# Altium footprint library PcbLib1.PcbLib: 13 footprints
Each footprint in its own frame and in the unit in brackets; x right, y up, seen from the top. Pads: shape width x height; smd on the part's side, far side on the other; paste and mask are expansions set on the pad; w line width, h text height; cw(c..) or ccw(c..) is an arc to the next point about the centre after c.
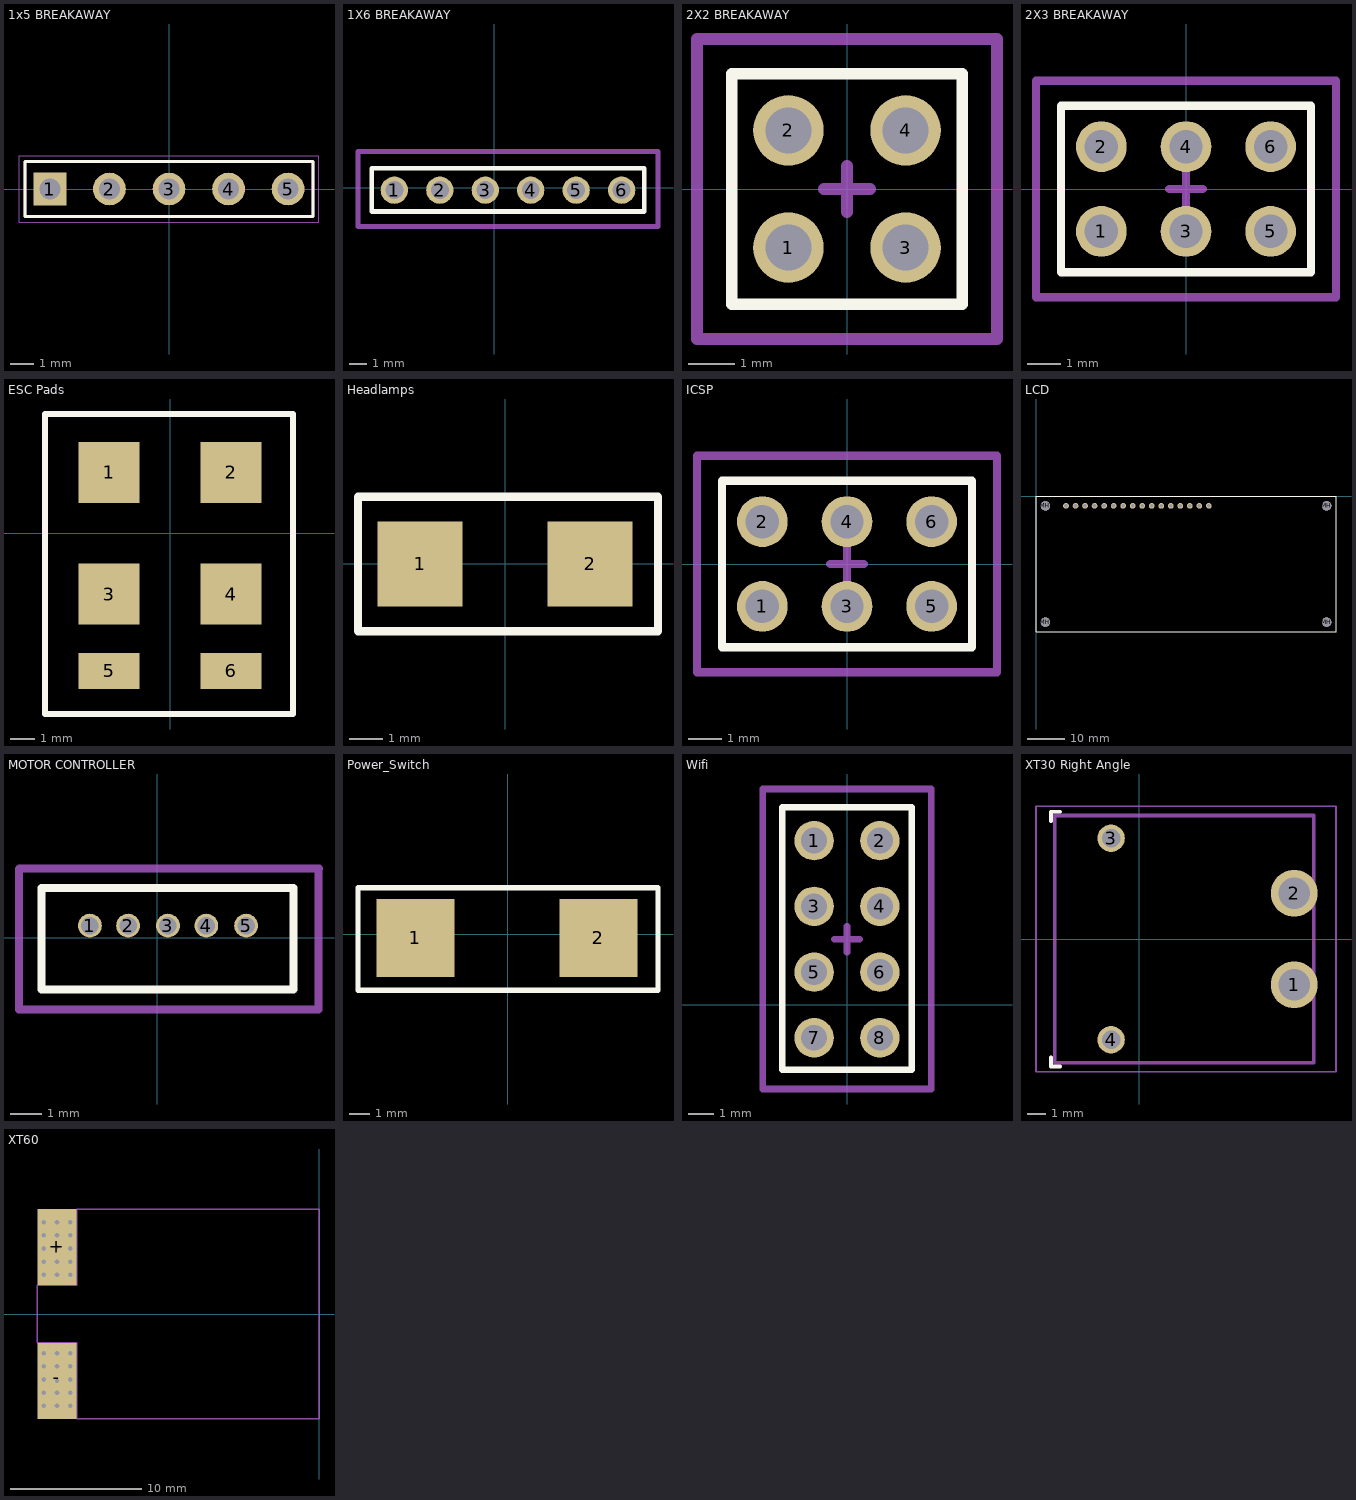
[diagram p0: the footprints below, top view; thin cyan lines are the x and y axes]

## 1x5 BREAKAWAY [mm]
pads (5):
  rect 1.398x1.398 hole 0.89: 1(-5.08,0)
  round 1.398 hole 0.89: 2(-2.54,0) 3(0,0) 4(2.54,0) 5(5.08,0)
Top Overlay:
  lines w0.127: -6.15,-1.17 6.15,-1.17 6.15,1.17 -6.15,1.17 -6.15,-1.17
Mechanical 3:
  lines w0.05: -6.4,-1.42 6.4,-1.42 6.4,1.42 -6.4,1.42 -6.4,-1.42
Mechanical 4:
  lines w0.127: -6.15,-1.17 6.15,-1.17 ; -6.15,-1.17 -6.15,1.17 ; -6.15,-1.17 6.15,-1.17 ; -6.15,-1.17 -6.15,1.17 ; -6.15,1.17 6.15,1.17 ; -6.15,1.17 6.15,1.17 ; 6.15,-1.17 6.15,1.17 ; 6.15,-1.17 6.15,1.17
3D body "c-5-146280-5-d-3d.stp": height 8.13, standoff -3.04, extent -6.147,-1.168 6.147,1.169

## 1X6 BREAKAWAY [mil]
pads (6):
  round 60 hole 39.37: 1(-220,-5) 2(-120,-5) 3(-20,-5) 4(80,-5) 5(180,-5) 6(280,-5)
Top Overlay:
  lines w10: -270,-52 330,-52 ; -270,-50 -270,43 330,43 330,-50
Mechanical 3:
  lines w10: -300,-85 360,-85 360,80 -300,80 -300,-85
3D body "c-5-146278-6-e-3d.stp": height 320.16, standoff -119.84, extent -262.93,-49.9 321.07,42.1

## 2X2 BREAKAWAY [mil]
pads (4):
  round 60 hole 39.37: 1(-50,-50) 2(-50,50) 3(50,-50) 4(50,50)
Top Overlay:
  lines w10: -98.43,-98.43 98.43,-98.43 98.43,98.43 -98.43,98.43 -98.43,-98.43
Mechanical 3:
  lines w10: -19.68,0 19.68,0 ; 0,-19.68 0,19.68 ; -127.95,-127.95 127.95,-127.95 127.95,127.95 -127.95,127.95 -127.95,-127.95
3D body "901310762.stp": height 364.17, standoff -114.17, extent -100,-100 100,100

## 2X3 BREAKAWAY [mil]
pads (6):
  round 60 hole 39.37: 1(-100,-50) 2(-100,50) 3(0,-50) 4(0,50) 5(100,-50) 6(100,50)
Top Overlay:
  lines w10: -147.64,-98.43 147.64,-98.43 147.64,98.43 -147.64,98.43 -147.64,-98.43
Mechanical 3:
  lines w10: -19.68,0 19.68,0 ; 0,-19.68 0,19.68 ; -177.17,-127.95 177.17,-127.95 177.17,127.95 -177.17,127.95 -177.17,118.11 -177.17,-127.95
3D body "901310763.stp": height 364.17, standoff -114.17, extent -150,-100 150,100

## ESC Pads [mm]
pads (6):
  rect 2.54x2.54 smd: 1(-2.54,2.54) 2(2.54,2.54) 3(-2.54,-2.54) 4(2.54,-2.54)
  rect 2.54x1.5 smd: 5(-2.54,-5.738) 6(2.54,-5.738)
Top Overlay:
  lines w0.254: -5.215,-7.531 -5.215,4.969 5.052,4.969 ; -5.139,-7.525 5.128,-7.525 ; 5.121,-7.531 5.121,4.969

## Headlamps [mil]
pads (2):
  rect 100x100 smd: 1(-100,0) 2(100,0)
Top Overlay:
  lines w10: -173.21,-79.48 179.75,-79.48 179.75,79.14 -173.21,79.14 -173.21,-78.98

## ICSP [mil]
pads (6):
  round 60 hole 39.37: 1(-100,-50) 2(-100,50) 3(0,-50) 4(0,50) 5(100,-50) 6(100,50)
Top Overlay:
  lines w10: -147.64,-98.43 -147.64,98.43 147.64,98.43 147.64,-98.43 -147.64,-98.43
Mechanical 3:
  lines w10: -19.68,0 19.68,0 ; 0,-19.68 0,19.68 ; -177.17,-127.95 -177.17,118.11 -177.17,127.95 177.17,127.95 177.17,-127.95 -177.17,-127.95

## LCD [mm] "Sparkfun Basic 16x2 Character LCD"
pads (20):
  round 1.524 hole 1: 1(8,-2.5) 2(10.54,-2.5) 3(13.08,-2.5) 4(15.62,-2.5) 5(18.16,-2.5) 6(20.7,-2.5) 7(23.24,-2.5) 8(25.78,-2.5) 9(28.32,-2.5) 10(30.86,-2.5) 11(33.4,-2.5) 12(35.94,-2.5) 13(38.48,-2.5) 14(41.02,-2.5) 15(43.56,-2.5) 16(46.1,-2.5)
  round 2.5 hole 2.5: MH(2.5,-33.5) MH(2.5,-2.5) MH(77.5,-33.5) MH(77.5,-2.5)
Top Overlay:
  lines w0.254: 0,-36 80,-36 80,0 0,0 0,-2 0,-36
3D body "9067.STEP": height 18.72, standoff 6, extent 0,-36 80,0
3D body: height 8, standoff 0, extent 75,-35.997 80,-31.003
3D body: height 8, standoff 0, extent 75,-4.997 80,-0.003
3D body: height 8, standoff 0, extent 0,-4.997 5,-0.003
3D body: height 8, standoff 0, extent 0,-35.997 5,-31.003
3D body: height 8, standoff 0, extent 7,-3.5 47,-1.5

## MOTOR CONTROLLER [mil]
pads (5):
  round 30 hole 22: 1(-85,15.02) 2(-37,15.02) 3(13.19,15.05) 4(61.44,15.02) 5(111.58,15.02)
Top Overlay:
  lines w10: -145.81,-65.2 171.29,-65.2 171.29,62.24 -145.81,62.24 -145.81,-65.2
Mechanical 1:
Mechanical 3:
  lines w10: 202.84,85.59 202.84,-90.31 -174.28,-90.31 -174.28,86.09 -173.61,86.75 203.31,86.75
3D body "530470510.stp": height 188.39, standoff -67.52, extent -145,-65.98 169.96,60

## Power_Switch [mil]
pads (2):
  rect 150x150 smd: 1(-176.66,-7.4) 2(173.34,-7.4)
Top Overlay:
  lines w10: -286.61,88.2 -286.61,-107.25 287.18,-107.25 287.18,88.62 -286.2,88.62

## Wifi [mil]
pads (8):
  round 60 hole 39.37: 1(-50,250) 2(50,250) 3(-50,150) 4(50,150) 5(-50,50) 6(50,50) 7(-50,-50) 8(50,-50)
Top Overlay:
  lines w10: -98.43,-98.43 98.43,-98.43 98.43,300.71 -98.43,300.71 -98.43,-98.43
Mechanical 3:
  lines w10: -19.68,100 19.68,100 ; 0,80 0,120 ; -127.95,-127.95 127.95,-127.95 127.95,328.55 -127.95,328.55 -127.95,-127.95

## XT30 Right Angle [mm]
pads (4):
  round 2.55 / inner round 1.524 / far side round 2.55 hole 1.7: 1(8.452,-2.5) 2(8.452,2.5)
  round 1.5 / inner round 1.524 / far side round 1.5 hole 1: 3(-1.548,5.5) 4(-1.548,-5.5)
Top Overlay:
  lines w0.2: -4.83,-6.46 -4.83,-6.96 -4.33,-6.96 ; -4.83,6.44 -4.83,6.94 -4.33,6.94
Mechanical 1:
  lines w0.2: -4.63,-6.76 9.52,-6.76 9.52,6.74 -4.63,6.74 -4.63,-6.76
Mechanical 3:
  lines w0.1: -5.648,-7.25 10.728,-7.25 10.728,7.25 -5.648,7.25 -5.648,-7.25
3D body "User Library-XT30PW-M.step": height 5, standoff -2, extent -4.53,-6.66 9.42,6.64

## XT60 [mm]
pads (2):
  rect 3x5.8 hole 0.305: +(-20,5.1) -(-20,-5.1)
via -19,-7 diameter 0.35 hole 0.35
via -20,-7 diameter 0.35 hole 0.35
via -21,-7 diameter 0.35 hole 0.35
via -21,-6 diameter 0.35 hole 0.35
via -20,-6 diameter 0.35 hole 0.35
via -19,-6 diameter 0.35 hole 0.35
via -19,-5 diameter 0.35 hole 0.35
via -21,-5 diameter 0.35 hole 0.35
via -21,-4 diameter 0.35 hole 0.35
via -20,-4 diameter 0.35 hole 0.35
via -19,-4 diameter 0.35 hole 0.35
via -19,-3 diameter 0.35 hole 0.35
via -20,-3 diameter 0.35 hole 0.35
via -21,-3 diameter 0.35 hole 0.35
via -19,3 diameter 0.35 hole 0.35
via -20,3 diameter 0.35 hole 0.35
via -21,3 diameter 0.35 hole 0.35
via -21,4 diameter 0.35 hole 0.35
via -20,4 diameter 0.35 hole 0.35
via -19,4 diameter 0.35 hole 0.35
via -19,5 diameter 0.35 hole 0.35
via -21,5 diameter 0.35 hole 0.35
via -21,6 diameter 0.35 hole 0.35
via -20,6 diameter 0.35 hole 0.35
via -19,6 diameter 0.35 hole 0.35
via -19,7 diameter 0.35 hole 0.35
via -20,7 diameter 0.35 hole 0.35
via -21,7 diameter 0.35 hole 0.35
Mechanical 5:
  lines w0: 0,-7.8 0,7.8
  lines w0.1: -21.5,-2.2 -21.5,2.2 -21.4,2.2 -18.5,2.2 -18.5,2.5 -18.5,8 0,8 0,-8 -18.5,-8 -18.5,-2.2 -21.4,-2.2 -21.5,-2.2
3D body "XT60 Stecker.stp": height 4, standoff -4, extent -21.4,-7.8 0,7.8